# EAGLE library part PIIKKIRIMA-15 (library OMAT_IC)
PIN HEADER
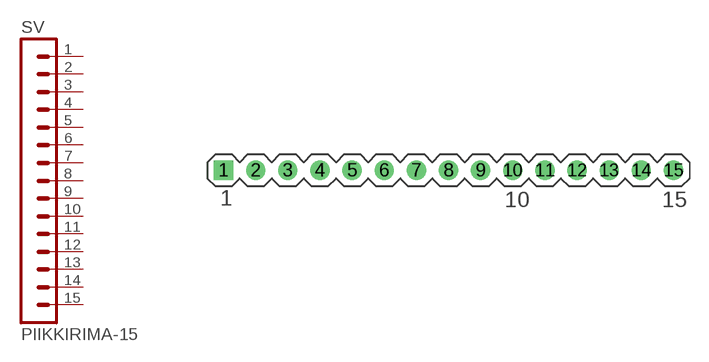
[diagram p5: symbol with the pads of PIIKKIRIMA-15; footprint PIIKKIRIMA-15]

Designator prefix SV

## PIIKKIRIMA-15 (OC_FARNELL: unknown; OC_NEWARK: unknown)  [PIIKKIRIMA-15]
1  1  pas
2  2  pas
3  3  pas
4  4  pas
5  5  pas
6  6  pas
7  7  pas
8  8  pas
9  9  pas
10  10  pas
11  11  pas
12  12  pas
13  13  pas
14  14  pas
15  15  pas

## Footprint PIIKKIRIMA-15 (pad centres in mm)
PIN HEADER
drill 1.016 square: 1 -24.13,0
drill 1.016: 2 -21.59,0; 3 -19.05,0; 4 -16.51,0; 5 -13.97,0; 6 -11.43,0; 7 -8.89,0; 8 -6.35,0; 9 -3.81,0; 10 -1.27,0; 11 1.27,0; 12 3.81,0; 13 6.35,0; 14 8.89,0; 15 11.43,0